# EAGLE library part BD6221 (library HBridge)
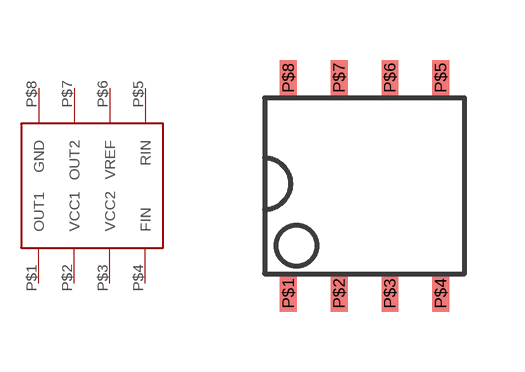
[diagram p0: symbol with the pads of BD6221; footprint BD6221]

Designator prefix -

## BD6221  [BD6221]
P$1  OUT1
P$2  VCC1
P$3  VCC2
P$4  FIN
P$5  RIN
P$6  VREF
P$7  OUT2
P$8  GND

## Footprint BD6221 (pad centres in mm)
smd 0.42 x 0.9: P$1 0.595,-0.5; P$2 1.865,-0.5; P$3 3.135,-0.5; P$4 4.405,-0.5; P$5 4.405,4.9; P$6 3.135,4.9; P$7 1.865,4.9; P$8 0.595,4.9